# EAGLE library part VL53L0CXV0DH/1 (library VL53L0CXV0DH_1)
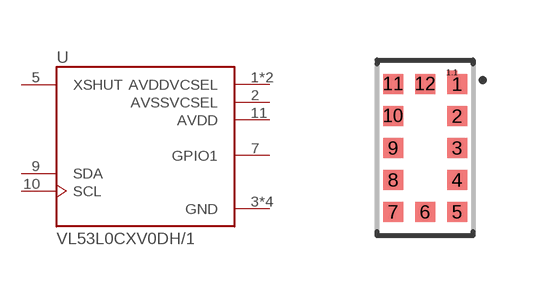
[diagram p0: symbol with the pads of XDCR_VL53L0CXV0DH/1; footprint XDCR_VL53L0CXV0DH/1]

Designator prefix U

## VL53L0CXV0DH/1 (MANUFACTURER: STMicroelectronics)  [XDCR_VL53L0CXV0DH/1]
1  AVDDVCSEL  pwr
1.1  AVDDVCSEL  pwr
2  AVSSVCSEL  pas
3  GND  pwr
4  GND  pwr
5  XSHUT  in
6  GND  pwr
7  GPIO1  out
9  SDA
10  SCL  in
11  AVDD  pwr
12  GND  pwr

## Footprint XDCR_VL53L0CXV0DH/1 (pad centres in mm)
smd 0.5 x 0.5: 1 0.8,1.6; 2 0.8,0.8; 3 0.8,0; 4 0.8,-0.8; 5 0.8,-1.6; 6 0,-1.6; 7 -0.8,-1.6; 8 -0.8,-0.8; 9 -0.8,0; 10 -0.8,0.8; 11 -0.8,1.6; 12 0,1.6
smd 0.25 x 0.08: 1.1 0.675,1.89